# Altium footprint library PowerSupply.PcbLib: 35 footprints (part 1 of 3)
Each footprint in its own frame and in the unit in brackets; x right, y up, seen from the top. Pads: shape width x height; smd on the part's side, far side on the other; paste and mask are expansions set on the pad; w line width, h text height; cw(c..) or ccw(c..) is an arc to the next point about the centre after c.
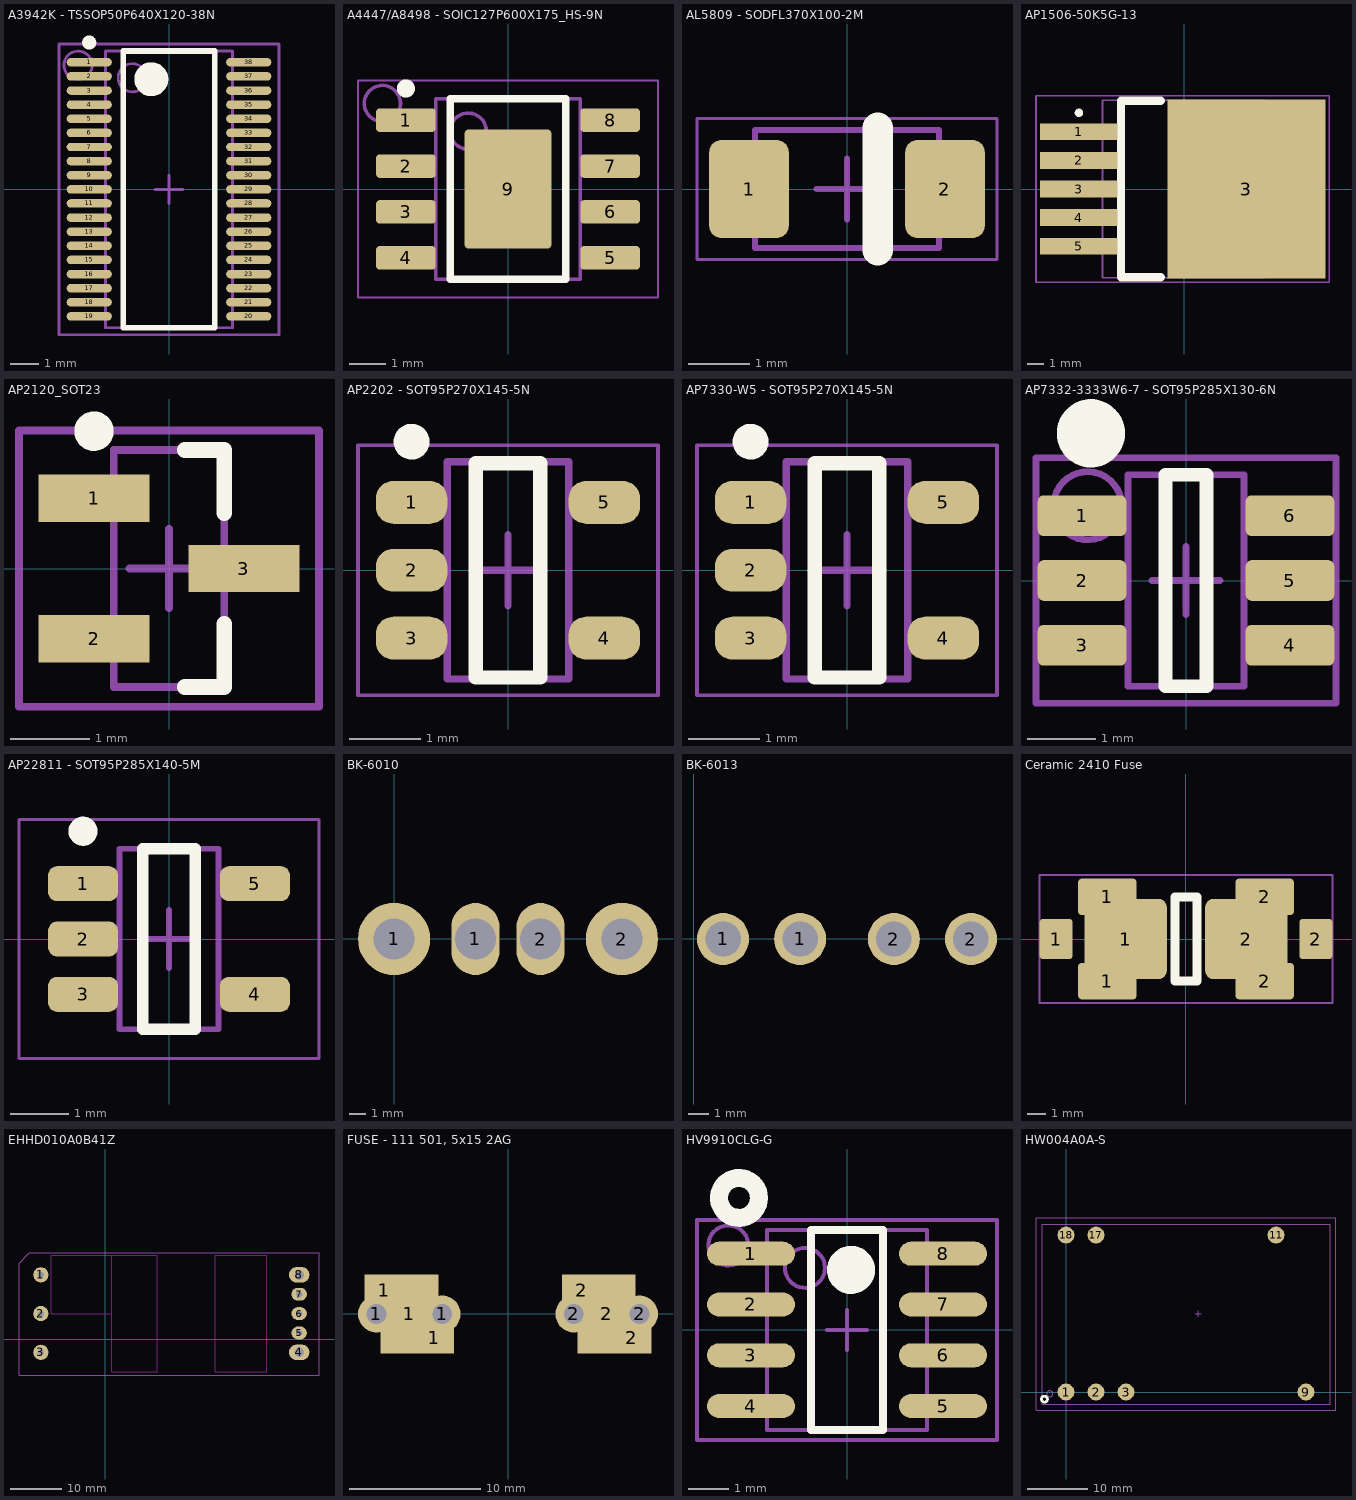
[diagram p0: the footprints below, top view; thin cyan lines are the x and y axes]

## A3942K - TSSOP50P640X120-38N [mm] "TSSOP, 38-Leads, Body 9.8x4.5mm (max), Pitch 0.50mm, IPC Medium Density"
height 1.2
pads (38):
  oval 1.6x0.3 smd paste-0.025 mask+0.045: 1(-2.825,4.5) 2(-2.825,4) 3(-2.825,3.5) 4(-2.825,3) 5(-2.825,2.5) 6(-2.825,2) 7(-2.825,1.5) 8(-2.825,1) 9(-2.825,0.5) 10(-2.825,0) 11(-2.825,-0.5) 12(-2.825,-1) 13(-2.825,-1.5) 14(-2.825,-2) 15(-2.825,-2.5) 16(-2.825,-3) 17(-2.825,-3.5) 18(-2.825,-4) 19(-2.825,-4.5) 20(2.825,-4.5) 21(2.825,-4) 22(2.825,-3.5) 23(2.825,-3) 24(2.825,-2.5) 25(2.825,-2) 26(2.825,-1.5) 27(2.825,-1) 28(2.825,-0.5) 29(2.825,0) 30(2.825,0.5) 31(2.825,1) 32(2.825,1.5) 33(2.825,2) 34(2.825,2.5) 35(2.825,3) 36(2.825,3.5) 37(2.825,4) 38(2.825,4.5)
Top Overlay:
  circle w0.25: c-2.825,5.2 r0.125
  circle w0.6: c-0.625,3.9 r0.3
  lines w0.2: -1.625,-4.9 -1.625,4.9 1.625,4.9 1.625,-4.9 -1.625,-4.9
Mechanical 13:
  circle w0.1: c-1.3,3.95 r0.5
  lines w0.1: -2.25,-4.9 -2.25,4.9 2.25,4.9 2.25,-4.9 -2.25,-4.9
Mechanical 15:
  lines w0.1: -0.5,0 0.5,0 ; 0,-0.5 0,0.5 ; -3.9,-5.15 -3.9,5.15 3.9,5.15 3.9,-5.15 -3.9,-5.15
Assembly:
  circle w0.1: c-3.221,4.398 r0.5
  lines w0.1: -3.9,-5.15 3.9,-5.15 3.9,5.15 -3.9,5.15 -3.9,-5.15
  text ".Designator" at 0.3,-2.2 h1.1
3D body: height 1.2, standoff 0.05, extent -2.25,-4.9 2.25,4.9

## A4447/A8498 - SOIC127P600X175_HS-9N [mm] "SOIC, 8-Leads, Body 4.90x3.90mm, Pitch 1.27mm, Thermal Pad 3.30x2.41mm, IPC Medium Density"
height 1.75
pads (9):
  rrect30% 1.65x0.65 smd paste-0.025: 1(-2.825,1.905) 2(-2.825,0.635) 3(-2.825,-0.635) 4(-2.825,-1.905) 5(2.825,-1.905) 6(2.825,-0.635) 7(2.825,0.635) 8(2.825,1.905)
  rrect10% 2.41x3.3 smd paste-0.2: 9(0,0)
Top Overlay:
  circle w0.25: c-2.825,2.78 r0.125
  lines w0.2: -1.6,-2.5 -1.6,2.5 1.6,2.5 1.6,-2.5 -1.6,-2.5
Mechanical 13:
  circle w0.1: c-1.1,1.6 r0.5
  lines w0.1: -2,-2.5 -2,2.5 2,2.5 2,-2.5 -2,-2.5
Mechanical 15:
  lines w0.05: -4.15,-3 -4.15,3 4.15,3 4.15,-3 -4.15,-3
  lines w0.1: -0.5,0 0.5,0 ; 0,-0.5 0,0.5
Assembly:
  circle w0.1: c-3.475,2.366 r0.5
  lines w0.05: -4.15,-3 4.15,-3 4.15,3 -4.15,3 -4.15,-3
  text ".Designator" at -2.2,-0.3 h1.1
3D body: height 1.7, standoff 0.1, extent -2,-2.5 2,2.5

## AL5809 - SODFL370X100-2M [mm] "SODFL, 2-Leads, Body 1.78x3.70mm, IPC Low Density"
height 1
pads (2):
  rrect30% 1.3x1.6 smd paste-0.05: 1(-1.6,0) 2(1.6,0)
Top Overlay:
  lines w0.5: 0.5,-1 0.5,1
Mechanical 13:
  lines w0.1: -1.5,-0.965 1.5,-0.965 1.5,0.965 -1.5,0.965 -1.5,-0.965
Mechanical 15:
  lines w0.05: -2.45,-1.15 2.45,-1.15 2.45,1.15 -2.45,1.15 -2.45,-1.15
  lines w0.1: -0.5,0 0.5,0 ; 0,-0.5 0,0.5
3D body: height 1, standoff 0, extent -1.5,-0.965 1.5,0.965

## AP1506-50K5G-13 [mm] "D2-PAK, 6-Pads, Body 9.6x10.5mm (max), IPC Medium Density"
height 4.85
pads (6):
  rect 4.6x1 smd paste-0.025: 1(-6.25,3.4) 2(-6.25,1.7) 3(-6.25,0) 4(-6.25,-1.7) 5(-6.25,-3.4)
  rect 9.4x10.65 smd paste-0.025: 3(3.7,0)
Top Overlay:
  circle w0.25: c-6.25,4.525 r0.125
  lines w0.5: -1.4,-5.25 -3.75,-5.25 -3.75,5.25 -1.4,5.25
Mechanical 13:
  lines w0.1: -4.85,-5.275 -4.85,5.275 4.8,5.275 4.8,-5.275 -4.85,-5.275
Mechanical 15:
  lines w0.1: -0.5,0 0.5,0 ; 0,-0.5 0,0.5 ; -8.8,-5.55 -8.8,5.55 8.625,5.55 8.625,-5.55 -8.8,-5.55
Assembly:
  lines w0.1: -8.8,-5.55 8.625,-5.55 8.625,5.55 -8.8,5.55 -8.8,-5.55
  text ".Designator" at -2.2,-0.3 h1.1
3D body: height 4.85, standoff 0, extent -4.85,-5.275 6,5.275

## AP2120_SOT23 [mm] "SOT23, 3-Leads, Body 3.0x2.5mm (max), Pitch 0.89mm, IPC Medium Density"
height 1.1
pads (3):
  rect 1.4x0.6 smd paste-0.025: 1(-0.95,0.89) 2(-0.95,-0.89) 3(0.95,0)
Top Overlay:
  circle w0.25: c-0.95,1.74 r0.125
  lines w0.2: 0.2,-1.5 0.7,-1.5 0.7,-0.7 ; 0.2,1.5 0.7,1.5 0.7,0.7
Mechanical 13:
  lines w0.1: -0.7,-1.5 -0.7,1.5 0.7,1.5 0.7,-1.5 -0.7,-1.5
Mechanical 15:
  lines w0.1: -0.5,0 0.5,0 ; 0,-0.5 0,0.5 ; -1.9,-1.75 -1.9,1.75 1.9,1.75 1.9,-1.75 -1.9,-1.75
Assembly:
  lines w0.1: -1.9,-1.75 1.9,-1.75 1.9,1.75 -1.9,1.75 -1.9,-1.75
  text ".Designator" at -1.692,-0.3 h1.1
3D body: height 1.1, standoff 0.1, extent -0.7,-1.5 0.7,1.5

## AP2202 - SOT95P270X145-5N [mm] "SOT23, 5-Leads, Body 2.92x2.70mm, Pitch 0.95mm, IPC Medium Density"
height 1.45
pads (5):
  rrect80% 1x0.6 smd paste-0.04: 1(-1.35,0.95) 2(-1.35,0) 3(-1.35,-0.95) 4(1.35,-0.95) 5(1.35,0.95)
Top Overlay:
  circle w0.25: c-1.35,1.8 r0.125
  lines w0.2: -0.45,-1.5 -0.45,1.5 0.45,1.5 0.45,-1.5 -0.45,-1.5
Mechanical 13:
  lines w0.1: -0.85,-1.52 0.85,-1.52 0.85,1.52 -0.85,1.52 -0.85,-1.52
Mechanical 15:
  lines w0.05: -2.1,-1.75 2.1,-1.75 2.1,1.75 -2.1,1.75 -2.1,-1.75
  lines w0.1: -0.5,0 0.5,0 ; 0,-0.5 0,0.5
Assembly:
  lines w0.05: -2.1,-1.75 -2.1,1.75 2.1,1.75 2.1,-1.75 -2.1,-1.75
  text ".Designator" at -1.946,-0.3 h1.1
3D body: height 1.45, standoff 0, extent -0.85,-1.52 0.85,1.52

## AP7330-W5 - SOT95P270X145-5N [mm] "SOT23, 5-Leads, Body 2.92x2.70mm, Pitch 0.95mm, IPC Medium Density"
height 1.45
pads (5):
  rrect80% 1x0.6 smd paste-0.04: 1(-1.35,0.95) 2(-1.35,0) 3(-1.35,-0.95) 4(1.35,-0.95) 5(1.35,0.95)
Top Overlay:
  circle w0.25: c-1.35,1.8 r0.125
  lines w0.2: -0.45,-1.5 -0.45,1.5 0.45,1.5 0.45,-1.5 -0.45,-1.5
Mechanical 13:
  lines w0.1: -0.85,-1.52 0.85,-1.52 0.85,1.52 -0.85,1.52 -0.85,-1.52
Mechanical 15:
  lines w0.05: -2.1,-1.75 2.1,-1.75 2.1,1.75 -2.1,1.75 -2.1,-1.75
  lines w0.1: -0.5,0 0.5,0 ; 0,-0.5 0,0.5
Assembly:
  lines w0.05: -2.1,-1.75 -2.1,1.75 2.1,1.75 2.1,-1.75 -2.1,-1.75
  text ".Designator" at -1.946,-0.3 h1.1
3D body: height 1.45, standoff 0, extent -0.85,-1.52 0.85,1.52

## AP7332-3333W6-7 - SOT95P285X130-6N [mm] "SOT23, 6-Leads, Body 3.1x3.0mm (max), Pitch 0.95mm, IPC Medium Density"
height 1.3
pads (6):
  rrect30% 1.3x0.6 smd paste-0.04: 1(-1.525,0.95) 2(-1.525,0) 3(-1.525,-0.95) 4(1.525,-0.95) 5(1.525,0) 6(1.525,0.95)
Top Overlay:
  circle w0.75: c-1.395,2.159 r0.125
  lines w0.2: -0.3,-1.55 0.3,-1.55 0.3,1.55 -0.3,1.55 -0.3,-1.55
Mechanical 13:
  lines w0.1: -0.85,-1.55 -0.85,1.55 0.85,1.55 0.85,-1.55 -0.85,-1.55
Mechanical 15:
  lines w0.1: -0.5,0 0.5,0 ; 0,-0.5 0,0.5 ; -2.2,-1.8 -2.2,1.8 2.2,1.8 2.2,-1.8 -2.2,-1.8
Assembly:
  circle w0.1: c-1.443,1.096 r0.5
  lines w0.1: -2.2,-1.8 2.2,-1.8 2.2,1.8 -2.2,1.8 -2.2,-1.8
  text ".Designator" at -1.946,-0.3 h1.1
3D body: height 1.3, standoff 0.01, extent -0.85,-1.55 0.85,1.55

## AP22811 - SOT95P285X140-5M [mm] "SOT23, 5-Leads, Body 3.00x2.85mm, Pitch 0.95mm, IPC Low Density"
height 1.4
pads (5):
  rrect50% 1.2x0.6 smd paste-0.025: 1(-1.475,0.95) 2(-1.475,0) 3(-1.475,-0.95) 4(1.475,-0.95) 5(1.475,0.95)
Top Overlay:
  circle w0.25: c-1.475,1.85 r0.125
  lines w0.2: -0.45,-1.55 0.45,-1.55 0.45,1.55 -0.45,1.55 -0.45,-1.55
Mechanical 13:
  lines w0.1: -0.85,-1.55 -0.85,1.55 0.85,1.55 0.85,-1.55 -0.85,-1.55
Mechanical 15:
  lines w0.05: -2.575,-2.05 -2.575,2.05 2.575,2.05 2.575,-2.05 -2.575,-2.05
  lines w0.1: -0.5,0 0.5,0 ; 0,-0.5 0,0.5
3D body: height 1.4, standoff 0.01, extent -0.85,-1.55 0.85,1.55

## BK-6010 [mm]
pads (4):
  round 4.5 hole 2.54: 1(0,0) 2(14.22,0)
  oval 3x4.5 hole 2.54: 1(5.08,0) 2(9.14,0)
Assembly:
  text ".Designator" at 4.912,-0.3 h1.1
3D body: height 20, standoff 0, extent -2.54,-2.54 16.764,2.54

## BK-6013 [mm]
pads (4):
  round 2.5 hole 1.7: 1(1.4,0) 1(5.1,0) 2(9.6,0) 2(13.3,0)
Assembly:
  text ".Designator" at 4.912,-0.3 h1.1
3D body: height 20, standoff 0, extent 1.3,-2 13.4,2
3D body: height 3.2, standoff 0, extent 0.4,-2.4 14.3,2.4

## Ceramic 2410 Fuse [mm] "Ceramic 2410 fuse holder, 15A. Compatible with Bel SSQC/SSTC and LittelFuse 154 OMNIBLOK. Also accommodates Mini ATO (Keystone 3586)"
pads (8):
  rrect20% 1.8x2.2 smd paste-0.025: 1(-7.1,0) 2(7.1,0)
  rrect20% 3.2x2 smd paste-0.025: 1(-4.3,-2.3) 1(-4.3,2.3) 2(4.3,-2.3) 2(4.3,2.3)
  rrect20% 4.5x4.4 smd paste-0.025: 1(-3.3,0) 2(3.3,0)
Top Overlay:
  lines w0.5: -0.6,-2.3 -0.6,2.3 0.6,2.3 0.6,-2.3 -0.6,-2.3
Assembly:
  lines w0.1: -8,-3.5 8,-3.5 8,3.5 -8,3.5 -8,-3.5
  text ".Designator" at -2.2,-0.3 h1.1
3D body: height 3.9, standoff 0, extent -5,-2.5 5,2.5

## EHHD010A0B41Z [mm] "Isolated DC/DC Converter, 1/8th brick"
pads (8):
  round 3 hole 1.27: 1(-12.7,12.7) 2(-12.7,5.08) 3(-12.7,-2.54)
  oval 4.064x3.048 hole 1.93: 4(38.1,-2.54) 8(38.1,12.7)
  oval 3.048x2.54 hole 1.27: 5(38.1,1.27) 6(38.1,5.08) 7(38.1,8.89)
Top Layer keep-out:
  lines w0.127: 1.27,16.51 -10.668,16.51 -10.668,5.08 1.27,5.08 1.27,16.51 ; 1.27,16.51 10.16,16.51 10.16,-6.35 1.27,-6.35 1.27,16.51 ; 21.59,-6.35 31.75,-6.35 31.75,16.51 21.59,16.51 21.59,-6.35
Assembly:
  lines w0.1: -17,-7 42,-7 42,17 -15,17 -17,15 -17,-7
  text ".Designator" at 9.992,4.78 h1.1
3D body: height 9.4, standoff 0, extent -16.51,-6.35 41.91,16.51

## FUSE - 111 501, 5x15 2AG [mm]
pads (10):
  round 2.8 hole 1.5: 1(-10,0) 1(-5,0) 2(5,0) 2(10,0)
  rect 3x2.4 smd paste-0.025: 1(-9.4,1.8) 1(-5.6,-1.8) 2(5.6,1.8) 2(9.4,-1.8)
  rect 4.4x6 smd paste-0.025: 1(-7.5,0) 2(7.5,0)
Assembly:
  text ".Designator" at -2.2,-0.3 h1.1
3D body: height 8.1, standoff 3.5, extent -10,-2.311 10,2.289
3D body "0751.0110_1.STEP": height 8.9, standoff -3.2, extent 4.45,-2.8 10.6,2.8
3D body "0751.0110_1.STEP": height 8.9, standoff -3.2, extent -10.6,-2.8 -4.45,2.8

## HV9910CLG-G [mm] "SOIC, 8-Leads, Body 5.0x4.0mm (max), Pitch 1.27mm, IPC Medium Density"
height 1.75
pads (8):
  oval 2.2x0.6 smd paste-0.025: 1(-2.4,1.905) 2(-2.4,0.635) 3(-2.4,-0.635) 4(-2.4,-1.905) 5(2.4,-1.905) 6(2.4,-0.635) 7(2.4,0.635) 8(2.4,1.905)
Top Overlay:
  circle w0.6: c0.1,1.5 r0.3
  circle w0.45: c-2.7,3.3 r0.5
  lines w0.2: -0.9,-2.5 0.9,-2.5 0.9,2.5 -0.9,2.5 -0.9,-2.5
Mechanical 13:
  circle w0.1: c-1.05,1.55 r0.5
  lines w0.1: -2,-2.5 2,-2.5 2,2.5 -2,2.5 -2,-2.5
Mechanical 15:
  lines w0.1: -0.5,0 0.5,0 ; 0,-0.5 0,0.5 ; -3.75,-2.75 3.75,-2.75 3.75,2.75 -3.75,2.75 -3.75,-2.75
Assembly:
  circle w0.1: c-2.967,2.112 r0.5
  lines w0.1: -3.75,-2.75 -3.75,2.75 3.75,2.75 3.75,-2.75 -3.75,-2.75
  text ".Designator" at -2.2,-0.3 h1.1
3D body: height 1.75, standoff 0.1, extent -2,-2.5 2,2.5

## HW004A0A-S [mm] "5V/4A DC-DC Isolated power module"
height 1.75
pads (7):
  round 2.8 smd paste-0.03: 1(0,0) 2(5,0) 3(10,0) 9(40,0) 11(35,26.16) 17(5,26.16) 18(0,26.16)
Top Overlay:
  circle w0.45: c-3.6,-1.2 r0.5
Mechanical 13:
  circle w0.1: c-2.7,-0.3 r0.5
  lines w0.1: -4,-2 -4,28 44,28 44,-2 -4,-2
Mechanical 15:
  lines w0.1: 21.5,13 22.5,13 ; 22,12.5 22,13.5 ; -5,-3 -5,29 45,29 45,-3 -5,-3
Assembly:
  text ".Designator" at 16.85,12.4 h1.1
3D body: height 8.5, standoff 0.1, extent -4,-2 44,28